# EAGLE library part DG4052EEN-T1-GE4 (library DG4052EEN-T1-GE4)
DG4052E Series 16 V 78 Ohm High Precision CMOS Analog Multiplexer - miniQFN-16
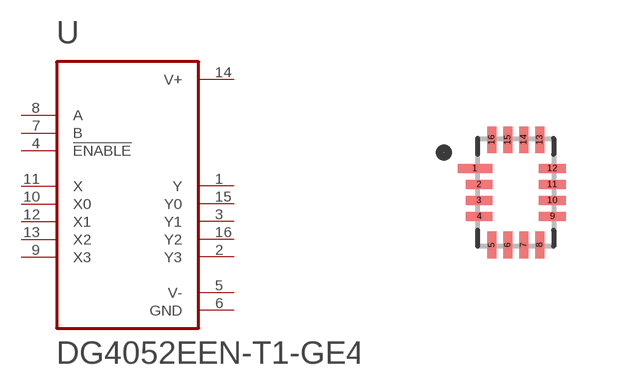
[diagram p0: symbol with the pads of QFN40P260X180X60-16N; footprint QFN40P260X180X60-16N]

Designator prefix U

## DG4052EEN-T1-GE4 (DESCRIPTION: 2 Circuit IC Switch 4:1 78Ohm 16-miniQFN (1.8x2.6); DIGI-KEY_PART_NUMBER: DG4052EEN-T1-GE4CT-ND; MF: Vishay; MP: DG4052EEN-T1-GE4; PACKAGE: WFQFN-16 Vishay; PURCHASE-URL: https://pricing.snapeda.com/search/part/DG4052EEN-T1-GE4/?ref=eda)  [QFN40P260X180X60-16N]
1  Y  pas
2  Y3  pas
3  Y1  pas
4  !ENABLE  in
5  V-  pwr
6  GND  pwr
7  B  in
8  A  in
9  X3  pas
10  X0  pas
11  X  pas
12  X1  pas
13  X2  pas
14  V+  pwr
15  Y0  pas
16  Y2  pas

## Footprint QFN40P260X180X60-16N (pad centres in mm)
smd 0.863 x 0.225: 1 -1.018,0.6
smd 0.663 x 0.225: 2 -0.918,0.2; 3 -0.918,-0.2; 4 -0.918,-0.6; 9 0.918,-0.6; 10 0.918,-0.2; 11 0.918,0.2; 12 0.918,0.6
smd 0.225 x 0.663: 5 -0.6,-1.319; 6 -0.2,-1.319; 7 0.2,-1.319; 8 0.6,-1.319; 13 0.6,1.319; 14 0.2,1.319; 15 -0.2,1.319; 16 -0.6,1.319